# EAGLE library part 74HCT3G07DC-Q100H (library 74HCT3G07DC-Q100H)
74HC(T)3G07-Q100 - Triple buffer with open-drain outputs@en-us Source: Datasheet <https://assets.nexperia.com/documents/data-sheet/74HC_HCT3G07_Q100.pdf>
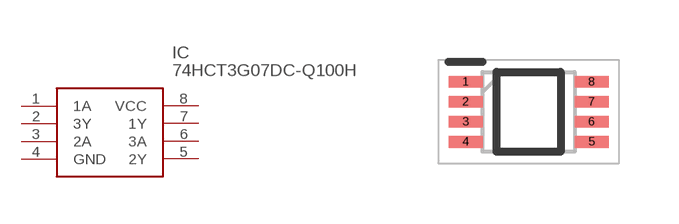
[diagram p0: symbol with the pads of SOP50P310X100-8N; footprint SOP50P310X100-8N]

Designator prefix IC

## 74HCT3G07DC-Q100H (Description: 74HC(T)3G07-Q100 - Triple buffer with open-drain outputs@en-us; Height: 1mm; Manufacturer_Name: Nexperia; Manufacturer_Part_Number: 74HCT3G07DC-Q100H; Mouser_Part_Number: 771-74HCT3G07DCQ100H; Mouser_Price-Stock: https://www.mouser.co.uk/ProductDetail/Nexperia/74HCT3G07DC-Q100H?qs=fi7yB2oewZlSvLcQvTnAfg%3D%3D)  [SOP50P310X100-8N]
1  1A
2  3Y
3  2A
4  GND
5  2Y
6  3A
7  1Y
8  VCC

## Footprint SOP50P310X100-8N (pad centres in mm)
SOT765-1
smd 0.85 x 0.3: 1 -1.575,0.75; 2 -1.575,0.25; 3 -1.575,-0.25; 4 -1.575,-0.75; 5 1.575,-0.75; 6 1.575,-0.25; 7 1.575,0.25; 8 1.575,0.75